# Altium footprint library xfl_2_400x400x210.PcbLib: 1 footprints
Each footprint in its own frame and in the unit in brackets; x right, y up, seen from the top. Pads: shape width x height; smd on the part's side, far side on the other; paste and mask are expansions set on the pad; w line width, h text height; cw(c..) or ccw(c..) is an arc to the next point about the centre after c.
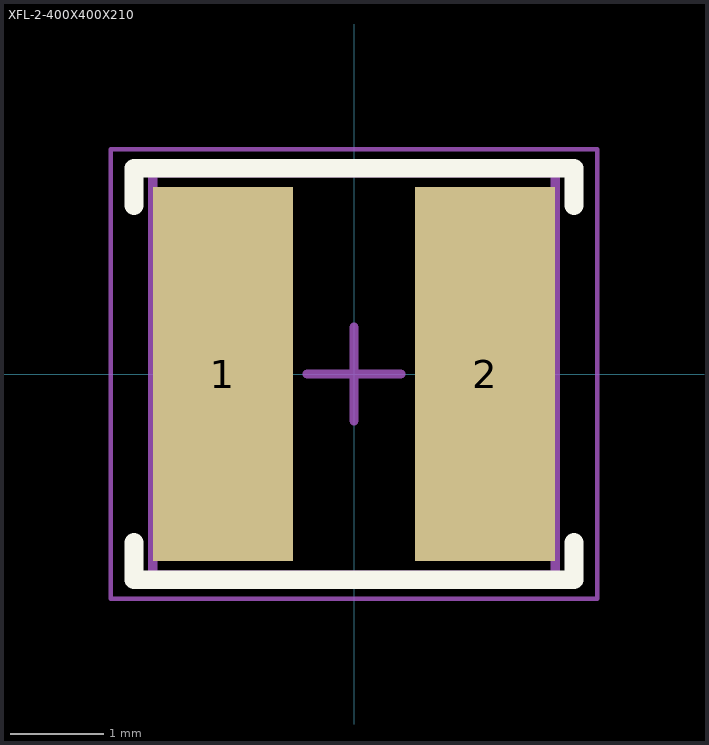
[diagram p0: the footprint, top view; thin cyan lines are the x and y axes]

## XFL-2-400X400X210 [mm] "Chip Inductor, 2-Leads, Body 4,00x4,00mm, IPC Medium Density"
height 2.1
pads (2):
  rect 1.5x4 smd: 1(-1.4,0) 2(1.4,0)
Top Overlay:
  lines w0.2: -2.35,-1.8 -2.35,-2.2 2.35,-2.2 2.35,-1.8 ; -2.35,1.8 -2.35,2.2 2.35,2.2 2.35,1.8
Top Comment:
  text ".Comment" at 0.9,2.6 h1.2
Top Designator:
  text ".Designator" at -0.5,2.6 h1.2
Top Component Outline:
  lines w0.1: -2.15,2.15 2.15,2.15 ; -2.15,2.15 2.15,2.15 ; -2.15,2.15 -2.15,-2.15 2.15,-2.15 2.15,2.15
Top Courtyard (Mech15):
  lines w0.05: -2.6,-2.4 2.6,-2.4 2.6,2.4 -2.6,2.4 -2.6,-2.4
  lines w0.1: -0.5,0 0.5,0 ; 0,-0.5 0,0.5
3D body "XFL4020.STEP": height 2.1, standoff 0, extent -2.15,-2.15 2.15,2.15